# EAGLE library part TRY_ATMEGA8_DEVICE (library try_atmega8)
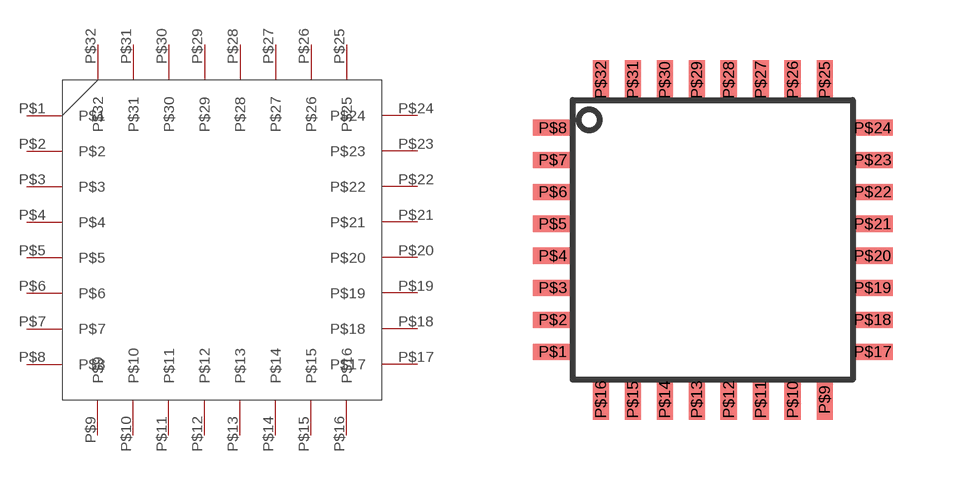
[diagram p0: symbol with the pads of TRY_FOOTPRINT_ATMEGA8; footprint TRY_FOOTPRINT_ATMEGA8]

Designator prefix -

## TRY_ATMEGA8_DEVICE  [TRY_FOOTPRINT_ATMEGA8]
P$1  P$1
P$2  P$2
P$3  P$3
P$4  P$4
P$5  P$5
P$6  P$6
P$7  P$7
P$8  P$8
P$9  P$9
P$10  P$10
P$11  P$11
P$12  P$12
P$13  P$13
P$14  P$14
P$15  P$15
P$16  P$16
P$17  P$17
P$18  P$18
P$19  P$19
P$20  P$20
P$21  P$21
P$22  P$22
P$23  P$23
P$24  P$24
P$25  P$25
P$26  P$26
P$27  P$27
P$28  P$28
P$29  P$29
P$30  P$30
P$31  P$31
P$32  P$32

## Footprint TRY_FOOTPRINT_ATMEGA8 (pad centres in mm)
smd 1 x 0.4: P$1 -0.4,0.8; P$2 -0.4,1.6; P$3 -0.4,2.4; P$4 -0.4,3.2; P$5 -0.4,4; P$6 -0.4,4.8; P$7 -0.4,5.6; P$8 -0.4,6.4; P$17 7.6,0.8; P$18 7.6,1.6; P$19 7.6,2.4; P$20 7.6,3.2; P$21 7.6,4; P$22 7.6,4.8; P$23 7.6,5.6; P$24 7.6,6.4
smd 0.4 x 1: P$9 6.4,-0.4; P$10 5.6,-0.4; P$11 4.8,-0.4; P$12 4,-0.4; P$13 3.2,-0.4; P$14 2.4,-0.4; P$15 1.6,-0.4; P$16 0.8,-0.4; P$25 6.4,7.6; P$26 5.6,7.6; P$27 4.8,7.6; P$28 4,7.6; P$29 3.2,7.6; P$30 2.4,7.6; P$31 1.6,7.6; P$32 0.8,7.6